# Altium footprint library PcbLib1.PcbLib: 7 footprints
Each footprint in its own frame and in the unit in brackets; x right, y up, seen from the top. Pads: shape width x height; smd on the part's side, far side on the other; paste and mask are expansions set on the pad; w line width, h text height; cw(c..) or ccw(c..) is an arc to the next point about the centre after c.
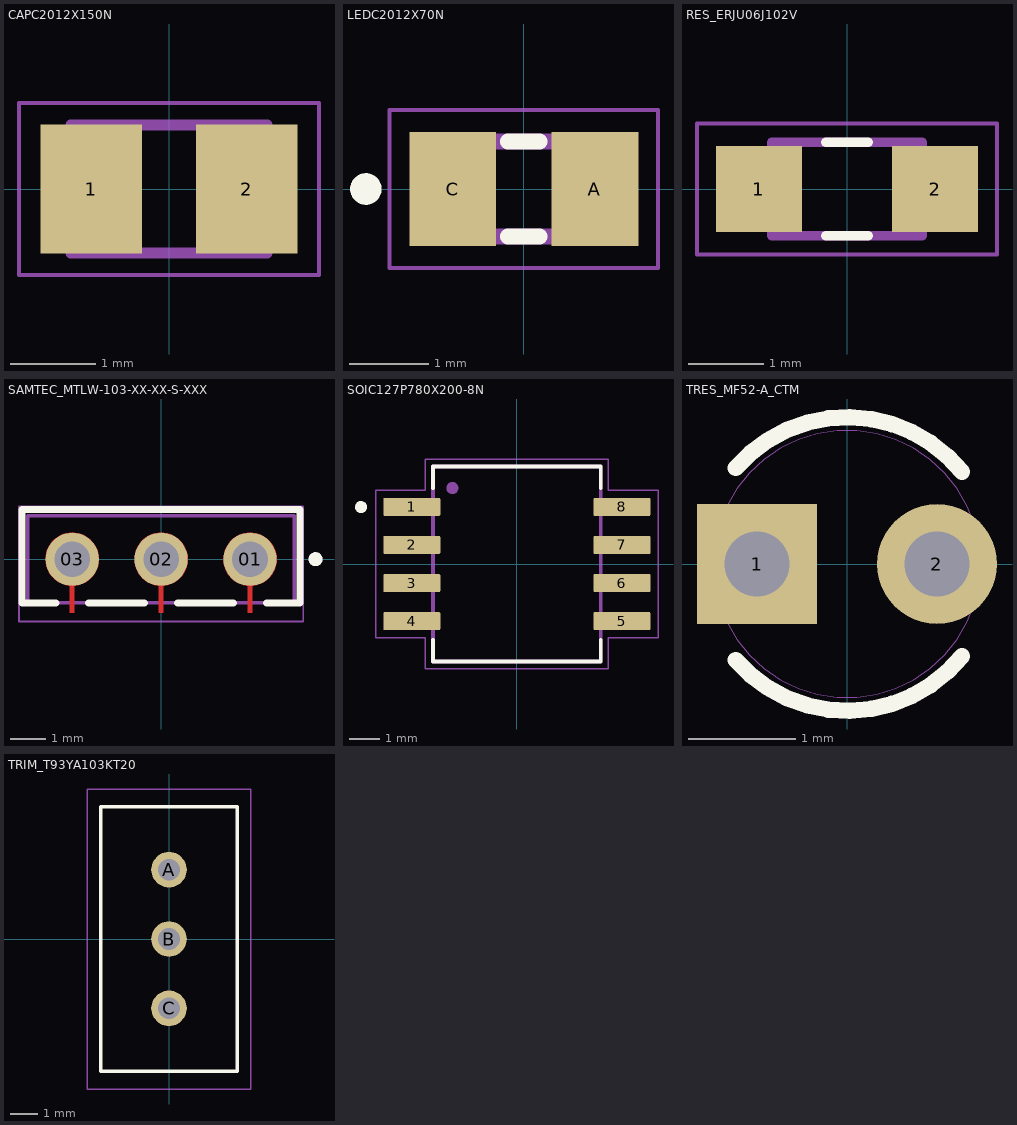
[diagram p0: the footprints below, top view; thin cyan lines are the x and y axes]

## CAPC2012X150N [mm]
pads (2):
  rect 1.19x1.51 smd: 1(-0.911,0) 2(0.911,0)
Mechanical 13:
  lines w0.127: -1.15,-0.75 -1.15,0.75 1.15,0.75 1.15,-0.75 -1.15,-0.75
Mechanical 15:
  lines w0.05: -1.756,-1.007 -1.756,1.007 1.756,1.007 1.756,-1.007 -1.756,-1.007
3D body "step_temp.STEP": height 1.5, standoff 0, extent -1,-0.625 1,0.625

## LEDC2012X70N [mm]
pads (2):
  rect 1.1x1.45 smd: A(0.9,0) C(-0.9,0)
Top Overlay:
  circle w0.2: c-2,0 r0.1
  lines w0.2: -0.2,-0.6 0.2,-0.6 ; -0.2,0.6 0.2,0.6
Mechanical 13:
  region: -0.5,-0.6 -1,-0.6 -1,0.6 -0.5,0.6
  region: 1,-0.6 0.5,-0.6 0.5,0.6 1,0.6
  lines w0.2: -1,-0.6 1,-0.6 1,0.6 -1,0.6 -1,-0.6
Mechanical 15:
  lines w0.05: -1.7,-1 1.7,-1 1.7,1 -1.7,1 -1.7,-1
3D body "step_temp.STEP": height 0.7, standoff 0, extent -1,-0.625 1,0.625

## RES_ERJU06J102V [mm]
pads (2):
  rect 1.15x1.15 smd: 1(-1.175,0) 2(1.175,0)
Top Overlay:
  lines w0.127: -0.28,-0.625 0.28,-0.625 ; -0.28,0.625 0.28,0.625
Mechanical 13:
  lines w0.127: -1,-0.625 1,-0.625 1,0.625 -1,0.625 -1,-0.625
Mechanical 15:
  lines w0.05: -2,-0.875 2,-0.875 2,0.875 -2,0.875 -2,-0.875
3D body "ERA-6AEB1400V.STEP": height 0.6, standoff 0, extent -1,-0.625 1,0.625

## SAMTEC_MTLW-103-XX-XX-S-XXX [mm]
height 7.54
pads (3):
  round 1.52 hole 1.02: 01(2.54,0) 02(0,0) 03(-2.54,0)
Top Layer:
  region: -2.461,0.756 -2.382,0.743 -2.305,0.723 -2.231,0.694 -2.16,0.658 -2.093,0.615 -2.031,0.565 -1.975,0.509 -1.925,0.447 -1.882,0.38 -1.846,0.309 -1.817,0.235 -1.797,0.158 -1.784,0.079 -1.78,0 -1.781,-0.038 -1.784,-0.076 -1.788,-0.113 -1.795,-0.151 -1.803,-0.187 -1.813,-0.224 -1.825,-0.259 -1.839,-0.294 -1.854,-0.329 -1.871,-0.363 -1.89,-0.395 -1.91,-0.427 -1.932,-0.458 -1.955,-0.487 -1.98,-0.516 -2.006,-0.543 -2.034,-0.569 -2.063,-0.593 -2.092,-0.616 -2.123,-0.638 -2.155,-0.658 -2.188,-0.676 -2.222,-0.692 -2.257,-0.707 -2.292,-0.721 -2.328,-0.732 -2.364,-0.742 -2.401,-0.75 -2.438,-0.756 -2.475,-0.76 -2.475,-1.53 -2.605,-1.53 -2.605,-0.76 -2.642,-0.756 -2.679,-0.75 -2.716,-0.742 -2.752,-0.732 -2.788,-0.721 -2.823,-0.707 -2.858,-0.692 -2.892,-0.676 -2.925,-0.658 -2.957,-0.638 -2.988,-0.616 -3.017,-0.593 -3.046,-0.569 -3.074,-0.543 -3.1,-0.516 -3.125,-0.487 -3.148,-0.458 -3.17,-0.427 -3.19,-0.395 -3.209,-0.363 -3.226,-0.329 -3.241,-0.294 -3.255,-0.259 -3.267,-0.224 -3.277,-0.187 -3.285,-0.151 -3.292,-0.113 -3.296,-0.076 -3.299,-0.038 -3.3,0 -3.296,0.079 -3.283,0.158 -3.263,0.235 -3.234,0.309 -3.198,0.38 -3.155,0.447 -3.105,0.509 -3.049,0.565 -2.987,0.615 -2.92,0.658 -2.849,0.694 -2.775,0.723 -2.698,0.743 -2.619,0.756 -2.54,0.76
  region: 0.079,0.756 0.158,0.743 0.235,0.723 0.309,0.694 0.38,0.658 0.447,0.615 0.509,0.565 0.565,0.509 0.615,0.447 0.658,0.38 0.694,0.309 0.723,0.235 0.743,0.158 0.756,0.079 0.76,0 0.759,-0.038 0.756,-0.076 0.752,-0.113 0.745,-0.151 0.737,-0.187 0.727,-0.224 0.715,-0.259 0.701,-0.294 0.686,-0.329 0.669,-0.363 0.65,-0.395 0.63,-0.427 0.608,-0.458 0.585,-0.487 0.56,-0.516 0.534,-0.543 0.506,-0.569 0.477,-0.593 0.448,-0.616 0.417,-0.638 0.385,-0.658 0.352,-0.676 0.318,-0.692 0.283,-0.707 0.248,-0.721 0.212,-0.732 0.176,-0.742 0.139,-0.75 0.102,-0.756 0.065,-0.76 0.065,-1.53 -0.065,-1.53 -0.065,-0.76 -0.102,-0.756 -0.139,-0.75 -0.176,-0.742 -0.212,-0.732 -0.248,-0.721 -0.283,-0.707 -0.318,-0.692 -0.352,-0.676 -0.385,-0.658 -0.417,-0.638 -0.448,-0.616 -0.477,-0.593 -0.506,-0.569 -0.534,-0.543 -0.56,-0.516 -0.585,-0.487 -0.608,-0.458 -0.63,-0.427 -0.65,-0.395 -0.669,-0.363 -0.686,-0.329 -0.701,-0.294 -0.715,-0.259 -0.727,-0.224 -0.737,-0.187 -0.745,-0.151 -0.752,-0.113 -0.756,-0.076 -0.759,-0.038 -0.76,0 -0.756,0.079 -0.743,0.158 -0.723,0.235 -0.694,0.309 -0.658,0.38 -0.615,0.447 -0.565,0.509 -0.509,0.565 -0.447,0.615 -0.38,0.658 -0.309,0.694 -0.235,0.723 -0.158,0.743 -0.079,0.756 0,0.76
  region: 2.619,0.756 2.698,0.743 2.775,0.723 2.849,0.694 2.92,0.658 2.987,0.615 3.049,0.565 3.105,0.509 3.155,0.447 3.198,0.38 3.234,0.309 3.263,0.235 3.283,0.158 3.296,0.079 3.3,0 3.299,-0.038 3.296,-0.076 3.292,-0.113 3.285,-0.151 3.277,-0.187 3.267,-0.224 3.255,-0.259 3.241,-0.294 3.226,-0.329 3.209,-0.363 3.19,-0.395 3.17,-0.427 3.148,-0.458 3.125,-0.487 3.1,-0.516 3.074,-0.543 3.046,-0.569 3.017,-0.593 2.988,-0.616 2.957,-0.638 2.925,-0.658 2.892,-0.676 2.858,-0.692 2.823,-0.707 2.788,-0.721 2.752,-0.732 2.716,-0.742 2.679,-0.75 2.642,-0.756 2.605,-0.76 2.605,-1.53 2.475,-1.53 2.475,-0.76 2.438,-0.756 2.401,-0.75 2.364,-0.742 2.328,-0.732 2.292,-0.721 2.257,-0.707 2.222,-0.692 2.188,-0.676 2.155,-0.658 2.123,-0.638 2.092,-0.616 2.063,-0.593 2.034,-0.569 2.006,-0.543 1.98,-0.516 1.955,-0.487 1.932,-0.458 1.91,-0.427 1.89,-0.395 1.871,-0.363 1.854,-0.329 1.839,-0.294 1.825,-0.259 1.813,-0.224 1.803,-0.187 1.795,-0.151 1.788,-0.113 1.784,-0.076 1.781,-0.038 1.78,0 1.784,0.079 1.797,0.158 1.817,0.235 1.846,0.309 1.882,0.38 1.925,0.447 1.975,0.509 2.031,0.565 2.093,0.615 2.16,0.658 2.231,0.694 2.305,0.723 2.382,0.743 2.461,0.756 2.54,0.76
Top Overlay:
  circle w0.2: c4.41,0 r0.1
  lines w0.2: -3.01,-1.245 -3.97,-1.245 -3.97,1.42 3.97,1.42 3.97,-1.245 3.01,-1.245 ; -2.07,-1.245 -0.47,-1.245 ; 0.47,-1.245 2.07,-1.245
Top Paste:
  region: -1.46,-0.47 -1.92,-0.47 -2.285,-0.77 -2.285,-1.53 -2.795,-1.53 -2.795,-0.77 -3.16,-0.47 -3.62,-0.47 -3.62,1.07 -1.46,1.07
  region: 1.08,-0.47 0.62,-0.47 0.255,-0.77 0.255,-1.53 -0.255,-1.53 -0.255,-0.77 -0.62,-0.47 -1.08,-0.47 -1.08,1.07 1.08,1.07
  region: 3.62,-0.47 3.16,-0.47 2.795,-0.77 2.795,-1.53 2.285,-1.53 2.285,-0.77 1.92,-0.47 1.46,-0.47 1.46,1.07 3.62,1.07
Top Solder:
  drawing of 3 lines, arcs and shapes, not listed
Mechanical 13:
  circle w0.2: c4.41,0 r0.1
  lines w0.1: -3.81,-1.245 3.81,-1.245 3.81,1.245 -3.81,1.245 -3.81,-1.245
Mechanical 15:
  lines w0.05: -4.06,-1.78 -4.06,1.505 4.06,1.505 4.06,-1.78 -4.06,-1.78
3D body "TSW-101-07-L-T.stp": height 8.38, standoff -2.54, extent -3.81,-1.27 3.81,1.27

## SOIC127P780X200-8N [mm]
pads (8):
  rrect15% 1.9x0.61 smd: 1(-3.505,1.905) 2(-3.505,0.635) 3(-3.505,-0.635) 4(-3.505,-1.905) 5(3.505,-1.905) 6(3.505,-0.635) 7(3.505,0.635) 8(3.505,1.905)
Top Overlay:
  circle w0.2: c-5.2,1.9 r0.1
  lines w0.127: -2.8,-2.527 -2.8,-3.25 2.8,-3.25 2.8,-2.527 ; -2.8,2.527 -2.8,3.25 2.8,3.25 2.8,2.527
Mechanical 13:
  circle w0.2: c-2.152,2.535 r0.1
  lines w0.127: -2.8,-3.25 2.8,-3.25 2.8,3.25 -2.8,3.25 -2.8,-3.25
Mechanical 15:
  lines w0.05: -4.71,-2.46 -4.71,2.46 -3.05,2.46 -3.05,3.5 3.05,3.5 3.05,2.46 4.71,2.46 4.71,-2.46 3.05,-2.46 3.05,-3.5 -3.05,-3.5 -3.05,-2.46 -4.71,-2.46
3D body "step_temp.STEP": height 2, standoff 0, extent -3.9,-3.1 3.9,3.1

## TRES_MF52-A_CTM [mil]
pads (2):
  rect 44x44 / inner round 44 / far side rect 44x44 hole 24: 1(-33,0)
  round 44 hole 24: 2(33,0)
Top Overlay:
  lines w6: -40.81,-35.22 ccw(c0.08,0.32) 42.18,-33.77 ; -40.81,35.22 cw(c0.08,-0.32) 42.18,33.77
Mechanical 13:
  lines w0: -49,0 cw(c0,0) 49,0 cw(c0,0) -49,0
3D body "step_temp.STEP": height 157.48, standoff -984.25, extent -49.21,-49.21 49.21,49.21

## TRIM_T93YA103KT20 [mm]
pads (3):
  round 1.308 hole 0.8: A(0,2.54) B(0,0) C(0,-2.54)
Top Overlay:
  lines w0.127: -2.5,-4.85 2.5,-4.85 2.5,4.85 -2.5,4.85 -2.5,-4.85
Mechanical 15:
  lines w0.05: -3,-5.5 3,-5.5 3,5.5 -3,5.5 -3,-5.5
3D body "step_temp.STEP": height 11.1, standoff -5, extent -2.5,-4.85 2.5,4.85